# Altium footprint library PcbLib1.PcbLib: 14 footprints
Each footprint in its own frame and in the unit in brackets; x right, y up, seen from the top. Pads: shape width x height; smd on the part's side, far side on the other; paste and mask are expansions set on the pad; w line width, h text height; cw(c..) or ccw(c..) is an arc to the next point about the centre after c.
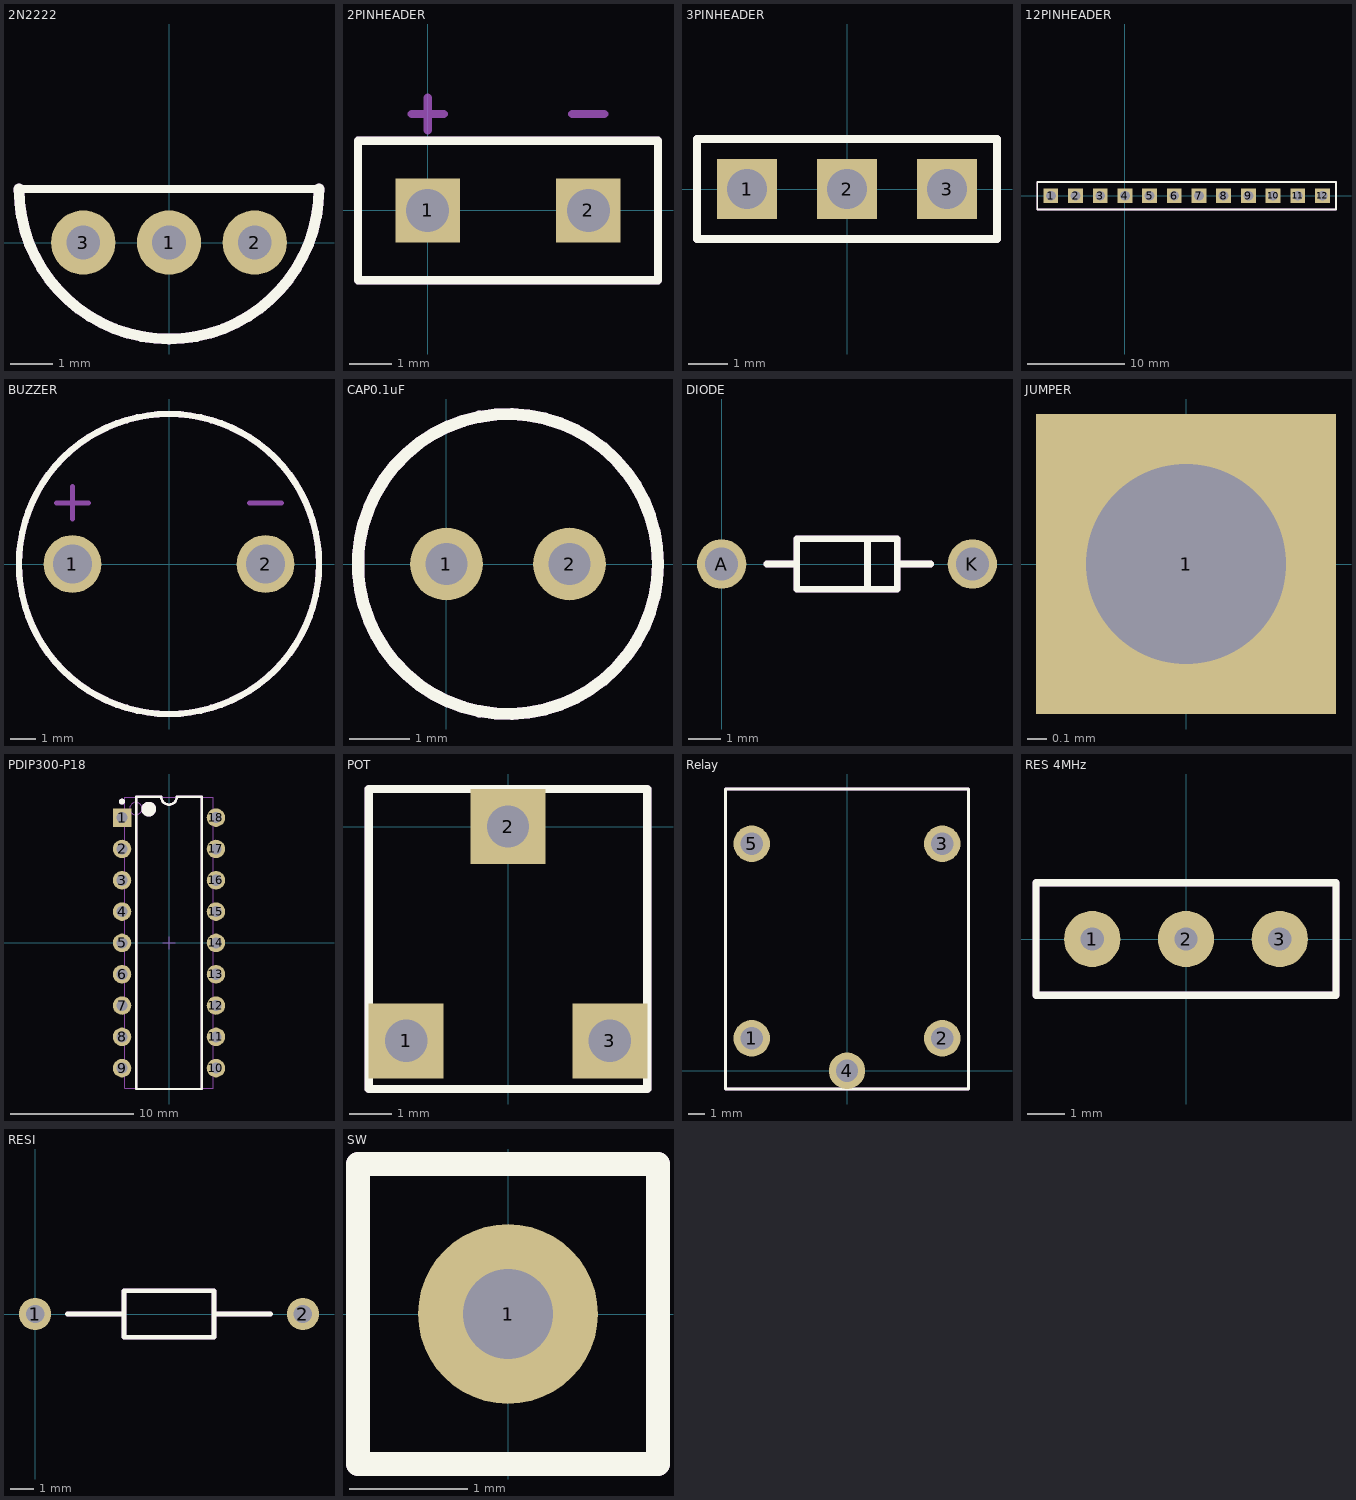
[diagram p0: the footprints below, top view; thin cyan lines are the x and y axes]

## 2N2222 [mil]
pads (3):
  round 60 hole 31.5: 1(0,0) 2(80,0) 3(-80,0)
Top Overlay:
  lines w7.87: -140,50 140,50
  lines w10: -140,50 ccw(c0,50) 140,50
Top Assembly:
  lines w7.87: -140,50 140,50
  lines w10: -140,50 ccw(c0,50) 140,50
  text "'.Designator'" at -200.72,70.24 h35.43
3D body "2n2222.step": height 150.11, standoff -353.83, extent -80.31,-85 80.31,35.08

## 2PINHEADER [mil]
pads (2):
  rect 60x60 hole 40 square: 1(0,0) 2(150,0)
Top Overlay:
  lines w7.87: -65,-65 215,-65 215,65 -65,65 -65,-65
Top Assembly:
  lines w7.87: -15,90 15,90 ; 0,75 0,105 ; 135,90 165,90 ; -65,-65 215,-65 215,65 -65,65 -65,-65
3D body "header1pin.stp": height 317.03, standoff -137.3, extent 100,-50 200,50
3D body "header1pin.stp": height 317.04, standoff -137.29, extent -50,-50 50,50

## 3PINHEADER [mil]
pads (3):
  rect 60x60 hole 40 square: 1(-100,0) 2(0,0) 3(100,0)
Top Overlay:
  lines w7.87: -150,-50 150,-50 150,50 -150,50 -150,-50
Top Assembly:
  lines w7.87: -150,-50 150,-50 150,50 -150,50 -150,-50
  text "OUT2" at 69.18,77.5 h25
  text "OUT2" at -160.82,77.5 h25
  text "IN" at -18.74,77.5 h25
3D body "header3pin.stp": height 317.04, standoff -137.29, extent -150,-50 150,50

## 12PINHEADER [mil]
pads (12):
  rect 60x60 hole 40 square: 1(-300,0) 2(-200,0) 3(-100,0) 4(0,0) 5(100,0) 6(200,0) 7(300,0) 8(400,0) 9(500,0) 10(600,0) 11(700,0) 12(800,0)
Top Overlay:
  lines w7.87: -355,-55 -355,55 855,55 855,-55 -355,-55
Top Assembly:
  lines w7.87: -355,-55 -355,55 855,55 855,-55 -355,-55
  text "6" at 188.19,82.29 h35.43
  text "5" at 88.19,82.29 h35.43
  text "4" at -11.81,82.29 h35.43
  text "3" at -111.81,82.29 h35.43
  text "2" at -211.81,82.29 h35.43
  text "1" at -305.9,82.29 h35.43
  text "12" at 773.43,82.29 h35.43
  text "11" at 679.34,82.29 h35.43
  text "10" at 573.43,82.29 h35.43
  text "9" at 488.19,82.29 h35.43
  text "8" at 388.19,82.29 h35.43
  text "7" at 288.19,82.29 h35.43
3D body "header12pin.stp": height 317.04, standoff -137.29, extent -350,-50 850,50

## BUZZER [mil]
pads (2):
  round 90 hole 60: 1(-150,0) 2(150,0)
Top Overlay:
  circle w10: c0,0 r233.08
Top Assembly:
  circle w10: c0,0 r233.08
  lines w7.87: -175,95 -125,95 ; -150,70 -150,120 ; 125,95 175,95
  text "'.Designator'" at -200.72,-114.76 h35.43
3D body "Buzzer 5v.stp": height 374.51, standoff -243.6, extent -236.22,-235 236.22,237.44

## CAP0.1uF [mm]
pads (2):
  round 1.2 hole 0.7: 1(0,0) 2(2.032,0)
Top Overlay:
  circle w0.2: c1.016,0 r2.476
Top Assembly:
  circle w0.2: c1.016,0 r2.476
  text "'.Designator'" at -4.082,1.022 h0.9
3D body "CAP_UEP_5X11_NCH.step": height 12.51, standoff -4.06, extent -1.501,-2.457 3.533,2.54

## DIODE [mm]
pads (2):
  round 1.5 hole 1: A(0,0) K(7.62,0)
Top Overlay:
  lines w0.2: 1.373,0 2.286,0 ; 4.433,-0.762 4.433,0.762 ; 5.373,0 6.35,0 ; 2.286,0 2.286,-0.762 5.334,-0.762 5.334,0.762 2.286,0.762 2.286,0
Top Assembly:
  lines w0.2: 1.373,0 2.286,0 ; 4.433,-0.762 4.433,0.762 ; 5.373,0 6.35,0 ; 2.286,0 2.286,-0.762 5.334,-0.762 5.334,0.762 2.286,0.762 2.286,0
  text "'.Designator'" at -1.288,1.276 h0.9
3D body "diode 1N4001.step": height 1.27, standoff -3.5, extent -0.258,-1.27 7.878,1.262

## JUMPER [mil]
pads (1):
  rect 60x60 hole 40 square: 1(0,0)

## PDIP300-P18 [mm] "DIP, 18-Pin, Row Spacing 7.62 mm, Pitch 2.54 mm"
height 5.34
pads (18):
  rect 1.5x1.5 hole 0.9: 1(-3.81,10.16)
  round 1.5 hole 0.9: 2(-3.81,7.62) 3(-3.81,5.08) 4(-3.81,2.54) 5(-3.81,0) 6(-3.81,-2.54) 7(-3.81,-5.08) 8(-3.81,-7.62) 9(-3.81,-10.16) 10(3.81,-10.16) 11(3.81,-7.62) 12(3.81,-5.08) 13(3.81,-2.54) 14(3.81,0) 15(3.81,2.54) 16(3.81,5.08) 17(3.81,7.62) 18(3.81,10.16)
Top Overlay:
  circle w0.25: c-3.81,11.46 r0.125
  circle w0.6: c-1.65,10.85 r0.3
  lines w0.2: -2.65,-11.85 -2.65,11.85 -0.635,11.85 ccw(c0,11.85) 0.635,11.85 2.65,11.85 2.65,-11.85 -2.65,-11.85
Top Assembly:
  circle w0.25: c-3.81,11.46 r0.125
  circle w0.6: c-1.65,10.85 r0.3
  lines w0.2: -2.65,-11.85 -2.65,11.85 -0.635,11.85 ccw(c0,11.85) 0.635,11.85 2.65,11.85 2.65,-11.85 -2.65,-11.85
  text "'.Designator'" at -5.098,-0.375 h0.9
Mechanical 13:
  circle w0.1: c-2.7,10.9 r0.5
  lines w0.1: -3.6,-11.8 -3.6,11.8 3.6,11.8 3.6,-11.8 -3.6,-11.8
Mechanical 15:
  lines w0.1: -0.5,0 0.5,0 ; 0,-0.5 0,0.5
3D body: height 5.33, standoff 0, extent -3.6,-11.8 3.6,11.8

## POT [mil]
pads (3):
  rect 70x70 hole 39.37 square: 1(-95,-200) 2(0,0) 3(95,-200)
Top Overlay:
  lines w7.87: -130,-245 130,-245 130,35 -130,35 -130,-245
Top Assembly:
  lines w7.87: -130,-245 130,-245 130,35 -130,35 -130,-245
  text "'.Designator'" at -200.72,-119.76 h35.43
3D body "User Library-Pot - RES_VAR1.step": height 165.86, standoff -263.28, extent -127.95,-244.69 127.95,32.87

## Relay [mil]
pads (5):
  round 90 hole 55: 1(-235,80) 2(235,80) 3(235,560) 4(0,0) 5(-235,560)
Top Overlay:
  lines w7.87: -300,-45 300,-45 300,695 -300,695 -300,-45
Top Assembly:
  lines w7.87: -300,-45 300,-45 300,695 -300,695 -300,-45
  text "'.Designator'" at -200.72,310.24 h35.43
3D body "relay5V.STEP": height 571.36, standoff -117.61, extent -295.28,-40 295.28,688.35

## RES 4MHz [mil]
pads (3):
  round 60 hole 25: 1(-100,0) 2(0,0) 3(100,0)
Top Overlay:
  lines w7.87: -160,-60 -160,60 160,60 160,-60 -160,-60
Top Assembly:
  lines w7.87: -160,-60 -160,60 160,60 160,-60 -160,-60
  text "'.Designator'" at -200.72,80.24 h35.43
3D body "CSTLS_8X3_MUR.step": height 235.98, standoff -144.02, extent -159.09,-59.02 155.91,59.02

## RESI [mm]
pads (2):
  round 1.4 hole 0.8: 1(0,0) 2(11.667,0)
Top Overlay:
  lines w0.2: 1.4,0 3.875,0 ; 7.792,0 10.267,0 ; 3.875,0 3.875,1.016 7.792,1.016 7.792,-1.016 3.875,-1.016 3.875,0
Top Assembly:
  lines w0.2: 1.4,0 3.875,0 ; 7.792,0 10.267,0 ; 3.875,0 3.875,1.016 7.792,1.016 7.792,-1.016 3.875,-1.016 3.875,0
  text "'.Designator'" at 0.744,-0.375 h0.9
3D body "YAG_CFR25_YAG.step": height 2.58, standoff -2.79, extent -0.305,-1.293 11.989,1.293

## SW [mil]
pads (1):
  round 60 hole 30: 1(0,0)
Top Overlay:
  lines w7.87: -50,-50 50,-50 50,50 -50,50 -50,-50
Top Assembly:
  lines w7.87: -50,-50 50,-50 50,50 -50,50 -50,-50
  text "'.Designator'" at -200.72,60.24 h35.43